# Altium footprint library HC49_SMD.PcbLib: 1 footprints
Each footprint in its own frame and in the unit in brackets; x right, y up, seen from the top. Pads: shape width x height; smd on the part's side, far side on the other; paste and mask are expansions set on the pad; w line width, h text height; cw(c..) or ccw(c..) is an arc to the next point about the centre after c.
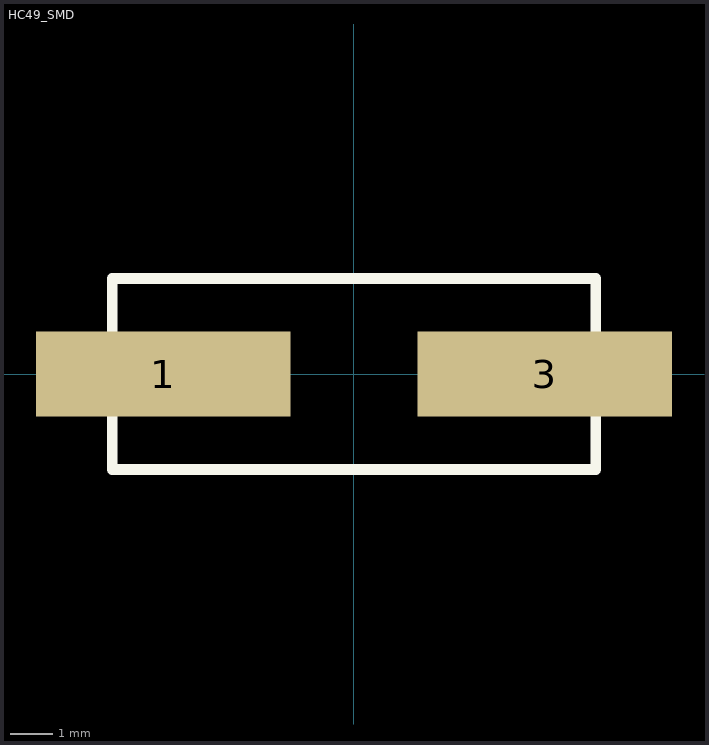
[diagram p0: the footprint, top view; thin cyan lines are the x and y axes]

## HC49_SMD [mm]
height 4.5
pads (2):
  rect 6x2 smd: 1(-4.5,0) 3(4.5,0)
Top Overlay:
  lines w0.254: -5.7,-2.25 5.7,-2.25 5.7,2.25 -5.7,2.25 -5.7,-2.25
3D body: height 4.3, standoff 0, extent -6.15,-2.25 6.15,2.25